# Altium schematic symbol library ETQP3M4R7KVN.SchLib: 1 symbol
Pins are listed as number, name and electrical type; pins without a type are passive.

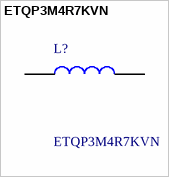
[diagram p0: symbol ETQP3M4R7KVN]

## ETQP3M4R7KVN
designator L?
Power Choke Coil, Automotive Grade, 4.7uF; Manufacturer_Name: Panasonic; Geometry.Height: 3mm; Manufacturer_Part_Number: ETQP3M4R7KVN; Mouser Part Number: *; Mouser Price/Stock: *; Arrow Part Number: *; Arrow Price/Stock: *; Datasheet Link: http://industrial.panasonic.com/cdbs/www-data/pdf/AGL0000/AGL0000C63.pdf
footprint ETQP3M1R0KVN
pins: 1, 2